# EAGLE library part ADUM1200 (library 00shaunc)
ADuM1200 Dual-Channel Digital Isolator. Use with Farnell No.: 1078204 (150ns), 1078205 (50ns) or 1078206 (45ns).
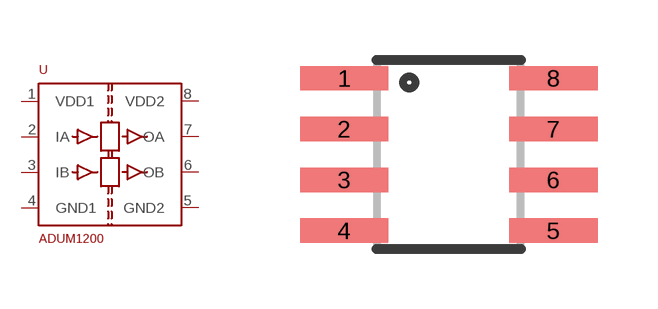
[diagram p8: symbol with the pads of SOIC8; footprint SOIC8]

Designator prefix -

## ADUM1200  [SOIC8]
1  VDD1  pwr
2  IA  in
3  IB  in
4  GND1  pwr
5  GND2  pwr
6  OB  out
7  OA  out
8  VDD2  pwr

## Footprint SOIC8 (pad centres in mm)
Small Outline Package
smd 2.21 x 0.61: 1 -2.616,1.905; 2 -2.616,0.635; 3 -2.616,-0.635; 4 -2.616,-1.905; 5 2.616,-1.905; 6 2.616,-0.635; 7 2.616,0.635; 8 2.616,1.905